# Altium schematic symbol library Interface_Ethernet.SchLib: 36 symbols
Pins are listed as number, name and electrical type; pins without a type are passive.

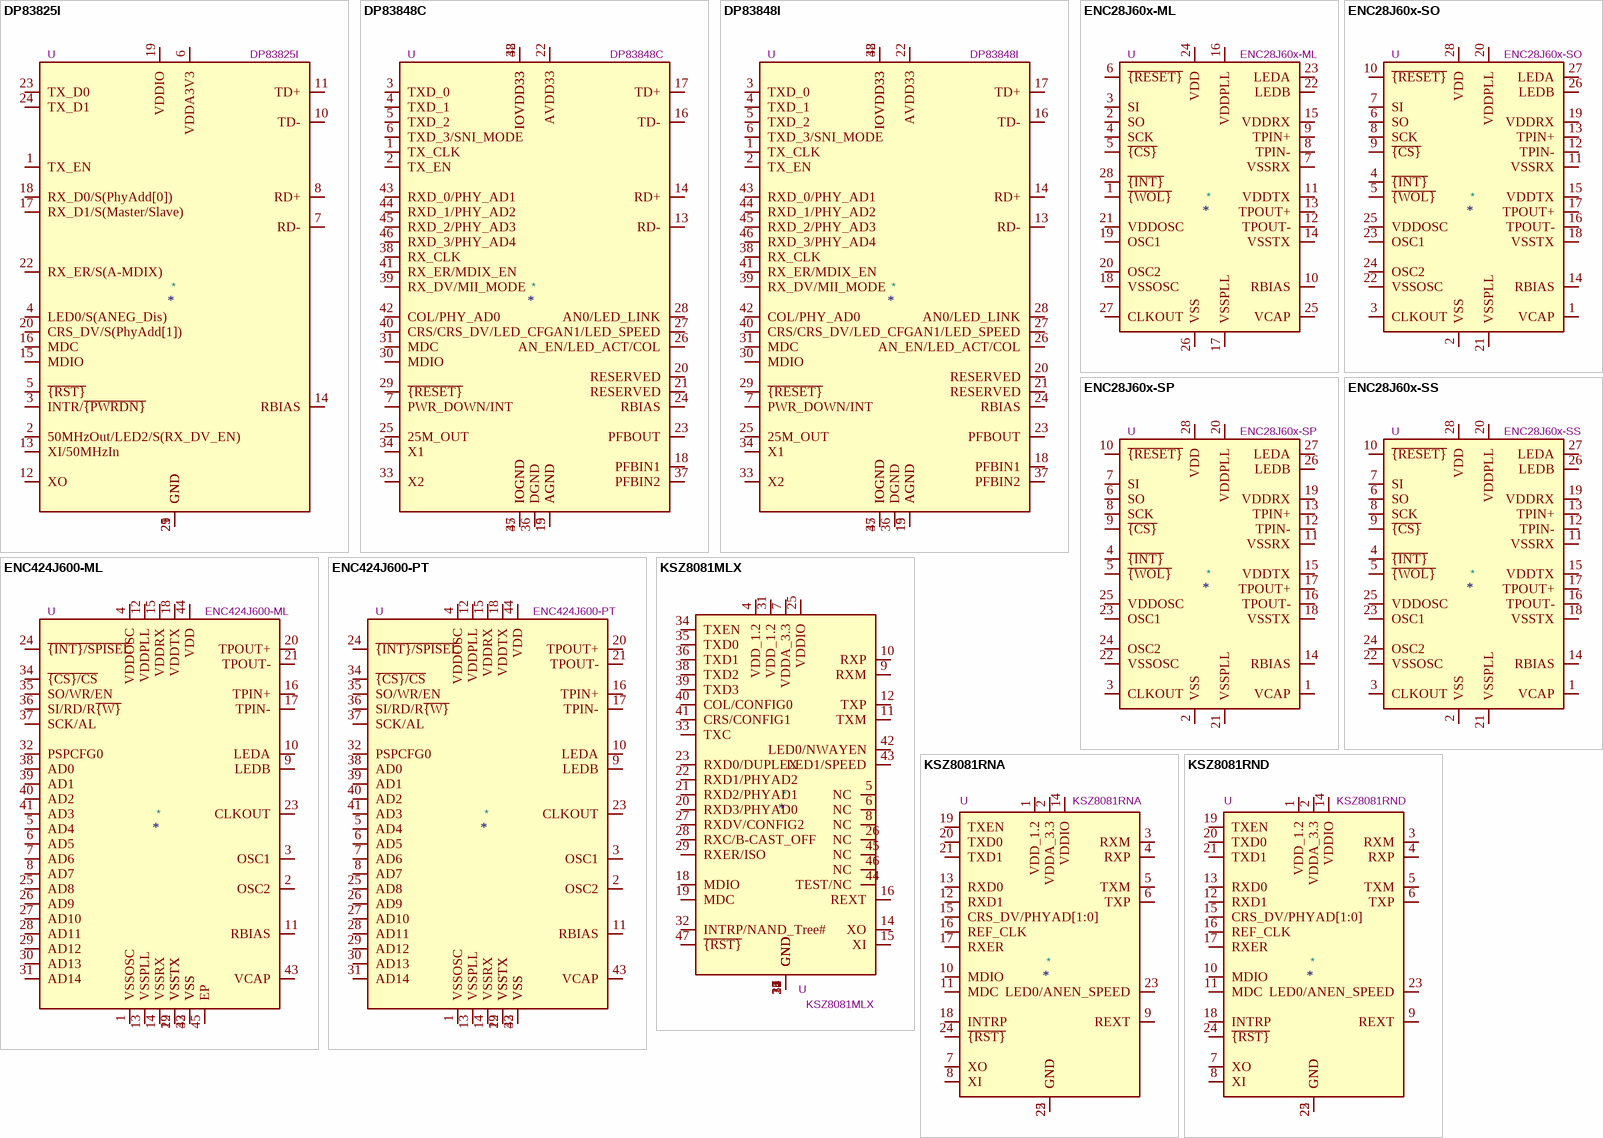
[diagram p0: symbols DP83825I to KSZ8081RND]

## DP83825I
designator *  value DP83825I  Reference: U
RMII Single 10/100Mbps Ethernet Physical Layer Transceiver, up to 150m reach, Energy-Efficient-Ethernet, Cable Diagnostics, QFN-24; ki_keywords: Ethernet 802.3 PHY Texas EEE extended TDR; ki_fp_filters: Texas*RMQ*; Footprint: Package_DFN_QFN:Texas_RMQ0024A_WQFN-24-1EP_3x3mm_P0.4mm_EP1.9x1.9mm; Datasheet: https://www.ti.com/lit/ds/symlink/dp83825i.pdf; Description_: RMII Single 10/100Mbps Ethernet Physical Layer Transceiver, up to 150m reach, Energy-Efficient-Ethernet, Cable Diagnostics, QFN-24
pins: 1 TX_EN, 2 50MHzOut/LED2/S(RX_DV_EN), 3 INTR/~{{PWRDN}}, 4 LED0/S(ANEG_Dis), 5 ~{{RST}}, 6 VDDA3V3, 7 RD-, 8 RD+, 9 GND, 10 TD-, 11 TD+, 12 XO, 13 XI/50MHzIn, 14 RBIAS, 15 MDIO, 16 MDC, 17 RX_D1/S(Master/Slave), 18 RX_D0/S(PhyAdd[0]), 19 VDDIO, 20 CRS_DV/S(PhyAdd[1]), 21 GND, 22 RX_ER/S(A-MDIX), 23 TX_D0, 24 TX_D1, 25 GND

## DP83848C
designator *  value DP83848C  Reference: U
MII/RMII Single 10/100Mbps Ethernet Physical Layer Transceiver, LQFP-48; ki_keywords: Ethernet PHY MII RMII 10/100Mpbs; ki_fp_filters: LQFP*7x7mm*P0.5mm*; Footprint: Package_QFP:LQFP-48_7x7mm_P0.5mm; Datasheet: http://www.ti.com/lit/ds/symlink/dp83848c.pdf; Description_: MII/RMII Single 10/100Mbps Ethernet Physical Layer Transceiver, LQFP-48
pins: 1 TX_CLK, 2 TX_EN, 3 TXD_0, 4 TXD_1, 5 TXD_2, 6 TXD_3/SNI_MODE, 7 PWR_DOWN/INT, 13 RD-, 14 RD+, 15 AGND, 16 TD-, 17 TD+, 18 PFBIN1, 19 AGND, 20 RESERVED, 21 RESERVED, 22 AVDD33, 23 PFBOUT, 24 RBIAS, 25 25M_OUT, 26 AN_EN/LED_ACT/COL, 27 AN1/LED_SPEED, 28 AN0/LED_LINK, 29 ~{{RESET}}, 30 MDIO, 31 MDC, 32 IOVDD33, 33 X2, 34 X1, 35 IOGND, 36 DGND, 37 PFBIN2, 38 RX_CLK, 39 RX_DV/MII_MODE, 40 CRS/CRS_DV/LED_CFG, 41 RX_ER/MDIX_EN, 42 COL/PHY_AD0, 43 RXD_0/PHY_AD1, 44 RXD_1/PHY_AD2, 45 RXD_2/PHY_AD3, 46 RXD_3/PHY_AD4, 47 IOGND, 48 IOVDD33

## DP83848I
designator *  value DP83848I  Reference: U
MII/RMII Single 10/100Mbps Ethernet Physical Layer Transceiver, LQFP-48; ki_keywords: Ethernet PHY MII RMII 10/100Mpbs; ki_fp_filters: LQFP*7x7mm*P0.5mm*; Footprint: Package_QFP:LQFP-48_7x7mm_P0.5mm; Datasheet: http://www.ti.com/lit/ds/symlink/dp83848c.pdf; Description_: MII/RMII Single 10/100Mbps Ethernet Physical Layer Transceiver, LQFP-48
pins: 1 TX_CLK, 2 TX_EN, 3 TXD_0, 4 TXD_1, 5 TXD_2, 6 TXD_3/SNI_MODE, 7 PWR_DOWN/INT, 13 RD-, 14 RD+, 15 AGND, 16 TD-, 17 TD+, 18 PFBIN1, 19 AGND, 20 RESERVED, 21 RESERVED, 22 AVDD33, 23 PFBOUT, 24 RBIAS, 25 25M_OUT, 26 AN_EN/LED_ACT/COL, 27 AN1/LED_SPEED, 28 AN0/LED_LINK, 29 ~{{RESET}}, 30 MDIO, 31 MDC, 32 IOVDD33, 33 X2, 34 X1, 35 IOGND, 36 DGND, 37 PFBIN2, 38 RX_CLK, 39 RX_DV/MII_MODE, 40 CRS/CRS_DV/LED_CFG, 41 RX_ER/MDIX_EN, 42 COL/PHY_AD0, 43 RXD_0/PHY_AD1, 44 RXD_1/PHY_AD2, 45 RXD_2/PHY_AD3, 46 RXD_3/PHY_AD4, 47 IOGND, 48 IOVDD33

## ENC28J60x-ML
designator *  value ENC28J60x-ML  Reference: U
ENC28J60 Single Chip Ethernet Interface,QFN-28; ki_keywords: ENC Ethernet; ki_fp_filters: QFN*28*1EP*6x6mm*P0.65mm*; Footprint: Package_DFN_QFN:QFN-28-1EP_6x6mm_P0.65mm_EP4.25x4.25mm; Datasheet: http://ww1.microchip.com/downloads/en/devicedoc/39662e.pdf; Description_: ENC28J60 Single Chip Ethernet Interface,QFN-28
pins: 1 ~{{WOL}}, 2 SO, 3 SI, 4 SCK, 5 ~{{CS}}, 6 ~{{RESET}}, 7 VSSRX, 8 TPIN-, 9 TPIN+, 10 RBIAS, 11 VDDTX, 12 TPOUT-, 13 TPOUT+, 14 VSSTX, 15 VDDRX, 16 VDDPLL, 17 VSSPLL, 18 VSSOSC, 19 OSC1, 20 OSC2, 21 VDDOSC, 22 LEDB, 23 LEDA, 24 VDD, 25 VCAP, 26 VSS, 27 CLKOUT, 28 ~{{INT}}

## ENC28J60x-SO
designator *  value ENC28J60x-SO  Reference: U
ENC28J60 Single Chip Ethernet Interface, SOIC-28; ki_keywords: ENC Ethernet; ki_fp_filters: SOIC*28*7.5x17.9mm*P1.27mm*; Footprint: Package_SO:SOIC-28W_7.5x17.9mm_P1.27mm; Datasheet: http://ww1.microchip.com/downloads/en/devicedoc/39662e.pdf; Description_: ENC28J60 Single Chip Ethernet Interface, SOIC-28
pins: 1 VCAP, 2 VSS, 3 CLKOUT, 4 ~{{INT}}, 5 ~{{WOL}}, 6 SO, 7 SI, 8 SCK, 9 ~{{CS}}, 10 ~{{RESET}}, 11 VSSRX, 12 TPIN-, 13 TPIN+, 14 RBIAS, 15 VDDTX, 16 TPOUT-, 17 TPOUT+, 18 VSSTX, 19 VDDRX, 20 VDDPLL, 21 VSSPLL, 22 VSSOSC, 23 OSC1, 24 OSC2, 25 VDDOSC, 26 LEDB, 27 LEDA, 28 VDD

## ENC28J60x-SP
designator *  value ENC28J60x-SP  Reference: U
ENC28J60 Single Chip Ethernet Interface, DIP-28; ki_keywords: ENC Ethernet; ki_fp_filters: DIP*28*W7.62mm*; Footprint: Package_DIP:DIP-28_W7.62mm; Datasheet: http://ww1.microchip.com/downloads/en/devicedoc/39662e.pdf; Description_: ENC28J60 Single Chip Ethernet Interface, DIP-28
pins: 1 VCAP, 2 VSS, 3 CLKOUT, 4 ~{{INT}}, 5 ~{{WOL}}, 6 SO, 7 SI, 8 SCK, 9 ~{{CS}}, 10 ~{{RESET}}, 11 VSSRX, 12 TPIN-, 13 TPIN+, 14 RBIAS, 15 VDDTX, 16 TPOUT-, 17 TPOUT+, 18 VSSTX, 19 VDDRX, 20 VDDPLL, 21 VSSPLL, 22 VSSOSC, 23 OSC1, 24 OSC2, 25 VDDOSC, 26 LEDB, 27 LEDA, 28 VDD

## ENC28J60x-SS
designator *  value ENC28J60x-SS  Reference: U
ENC28J60 Single Chip Ethernet Interface, SSOP-28; ki_keywords: ENC Ethernet; ki_fp_filters: SSOP*28*5.3x10.2mm*P0.65mm*; Footprint: Package_SO:SSOP-28_5.3x10.2mm_P0.65mm; Datasheet: http://ww1.microchip.com/downloads/en/devicedoc/39662e.pdf; Description_: ENC28J60 Single Chip Ethernet Interface, SSOP-28
pins: 1 VCAP, 2 VSS, 3 CLKOUT, 4 ~{{INT}}, 5 ~{{WOL}}, 6 SO, 7 SI, 8 SCK, 9 ~{{CS}}, 10 ~{{RESET}}, 11 VSSRX, 12 TPIN-, 13 TPIN+, 14 RBIAS, 15 VDDTX, 16 TPOUT-, 17 TPOUT+, 18 VSSTX, 19 VDDRX, 20 VDDPLL, 21 VSSPLL, 22 VSSOSC, 23 OSC1, 24 OSC2, 25 VDDOSC, 26 LEDB, 27 LEDA, 28 VDD

## ENC424J600-ML
designator *  value ENC424J600-ML  Reference: U
Stand-Alone 10/100 Ethernet Controller with SPI or Parallel Interface, QFN-44; ki_keywords: ENC Ethernet; ki_fp_filters: QFN*44*8x8mm*P0.65mm*; Footprint: Package_DFN_QFN:QFN-44-1EP_8x8mm_P0.65mm_EP6.45x6.45mm; Datasheet: http://ww1.microchip.com/downloads/en/DeviceDoc/39935c.pdf; Description_: Stand-Alone 10/100 Ethernet Controller with SPI or Parallel Interface, QFN-44
pins: 1 VSSOSC, 2 OSC2, 3 OSC1, 4 VDDOSC, 5 AD4, 6 AD5, 7 AD6, 8 AD7, 9 LEDB, 10 LEDA, 11 RBIAS, 12 VDDPLL, 13 VSSPLL, 14 VSSRX, 15 VDDRX, 16 TPIN+, 17 TPIN-, 18 VDDTX, 19 VSSTX, 20 TPOUT+, 21 TPOUT-, 22 VSSTX, 23 CLKOUT, 24 ~{{INT}/SPISEL}, 25 AD8, 26 AD9, 27 AD10, 28 AD11, 29 AD12, 30 AD13, 31 AD14, 32 PSPCFG0, 33 VSS, 34 ~{{CS}/CS}, 35 SO/WR/EN, 36 SI/RD/R~{{W}}, 37 SCK/AL, 38 AD0, 39 AD1, 40 AD2, 41 AD3, 42 VSS, 43 VCAP, 44 VDD, 45 EP

## ENC424J600-PT
designator *  value ENC424J600-PT  Reference: U
Stand-Alone 10/100 Ethernet Controller with SPI or Parallel Interface, TQFP-44; ki_keywords: ENC Ethernet; ki_fp_filters: TQFP*44*10x10mm*P0.8mm*; Footprint: Package_QFP:TQFP-44_10x10mm_P0.8mm; Datasheet: http://ww1.microchip.com/downloads/en/DeviceDoc/39935c.pdf; Description_: Stand-Alone 10/100 Ethernet Controller with SPI or Parallel Interface, TQFP-44
pins: 1 VSSOSC, 2 OSC2, 3 OSC1, 4 VDDOSC, 5 AD4, 6 AD5, 7 AD6, 8 AD7, 9 LEDB, 10 LEDA, 11 RBIAS, 12 VDDPLL, 13 VSSPLL, 14 VSSRX, 15 VDDRX, 16 TPIN+, 17 TPIN-, 18 VDDTX, 19 VSSTX, 20 TPOUT+, 21 TPOUT-, 22 VSSTX, 23 CLKOUT, 24 ~{{INT}/SPISEL}, 25 AD8, 26 AD9, 27 AD10, 28 AD11, 29 AD12, 30 AD13, 31 AD14, 32 PSPCFG0, 33 VSS, 34 ~{{CS}/CS}, 35 SO/WR/EN, 36 SI/RD/R~{{W}}, 37 SCK/AL, 38 AD0, 39 AD1, 40 AD2, 41 AD3, 42 VSS, 43 VCAP, 44 VDD

## KSZ8081MLX
designator *  value KSZ8081MLX  Reference: U
10BASE-T/100BASE-TX PHY with RMII Support, 25 MHz input clock, LQFP-48; ki_keywords: ETH PHY RMII MII; ki_fp_filters: LQFP?48*7x7mm*P0.5mm*; Footprint: Package_QFP:LQFP-48_7x7mm_P0.5mm; Datasheet: http://ww1.microchip.com/downloads/en/DeviceDoc/KSZ8081MLX.pdf; Description_: 10BASE-T/100BASE-TX PHY with RMII Support, 25 MHz input clock, LQFP-48
pins: 1 GND, 2 GND, 3 GND, 4 VDD_1.2, 5 NC, 6 NC, 7 VDDA_3.3, 8 NC, 9 RXM, 10 RXP, 11 TXM, 12 TXP, 13 GND, 14 XO, 15 XI, 16 REXT, 17 GND, 18 MDIO, 19 MDC, 20 RXD3/PHYAD0, 21 RXD2/PHYAD1, 22 RXD1/PHYAD2, 23 RXD0/DUPLEX, 24 GND, 25 VDDIO, 26 NC, 27 RXDV/CONFIG2, 28 RXC/B-CAST_OFF, 29 RXER/ISO, 30 GND, 31 VDD_1.2, 32 INTRP/NAND_Tree#, 33 TXC, 34 TXEN, 35 TXD0, 36 TXD1, 37 GND, 38 TXD2, 39 TXD3, 40 COL/CONFIG0, 41 CRS/CONFIG1, 42 LED0/NWAYEN, 43 LED1/SPEED, 44 TEST/NC, 45 NC, 46 NC, 47 ~{{RST}}

## KSZ8081RNA
designator *  value KSZ8081RNA  Reference: U
10BASE-T/100BASE-TX PHY with RMII Support, 25 MHz input clock/50 MHz output, QFN-24; ki_keywords: ETH PHY RMII; ki_fp_filters: QFN*1EP*4x4mm*P0.5mm*; Footprint: Package_DFN_QFN:QFN-24-1EP_4x4mm_P0.5mm_EP2.6x2.6mm; Datasheet: http://ww1.microchip.com/downloads/en/DeviceDoc/00002199A.pdf; Description_: 10BASE-T/100BASE-TX PHY with RMII Support, 25 MHz input clock/50 MHz output, QFN-24
pins: 1 VDD_1.2, 2 VDDA_3.3, 3 RXM, 4 RXP, 5 TXM, 6 TXP, 7 XO, 8 XI, 9 REXT, 10 MDIO, 11 MDC, 12 RXD1, 13 RXD0, 14 VDDIO, 15 CRS_DV/PHYAD[1:0], 16 REF_CLK, 17 RXER, 18 INTRP, 19 TXEN, 20 TXD0, 21 TXD1, 22 GND, 23 LED0/ANEN_SPEED, 24 ~{{RST}}, 25 GND

## KSZ8081RND
designator *  value KSZ8081RND  Reference: U
10BASE-T/100BASE-TX PHY with RMII Support, 50 MHz input clock, QFN-24; ki_keywords: ETH PHY RMII; ki_fp_filters: QFN*1EP*4x4mm*P0.5mm*; Footprint: Package_DFN_QFN:QFN-24-1EP_4x4mm_P0.5mm_EP2.6x2.6mm; Datasheet: http://ww1.microchip.com/downloads/en/DeviceDoc/00002199A.pdf; Description_: 10BASE-T/100BASE-TX PHY with RMII Support, 50 MHz input clock, QFN-24
pins: 1 VDD_1.2, 2 VDDA_3.3, 3 RXM, 4 RXP, 5 TXM, 6 TXP, 7 XO, 8 XI, 9 REXT, 10 MDIO, 11 MDC, 12 RXD1, 13 RXD0, 14 VDDIO, 15 CRS_DV/PHYAD[1:0], 16 REF_CLK, 17 RXER, 18 INTRP, 19 TXEN, 20 TXD0, 21 TXD1, 22 GND, 23 LED0/ANEN_SPEED, 24 ~{{RST}}, 25 GND

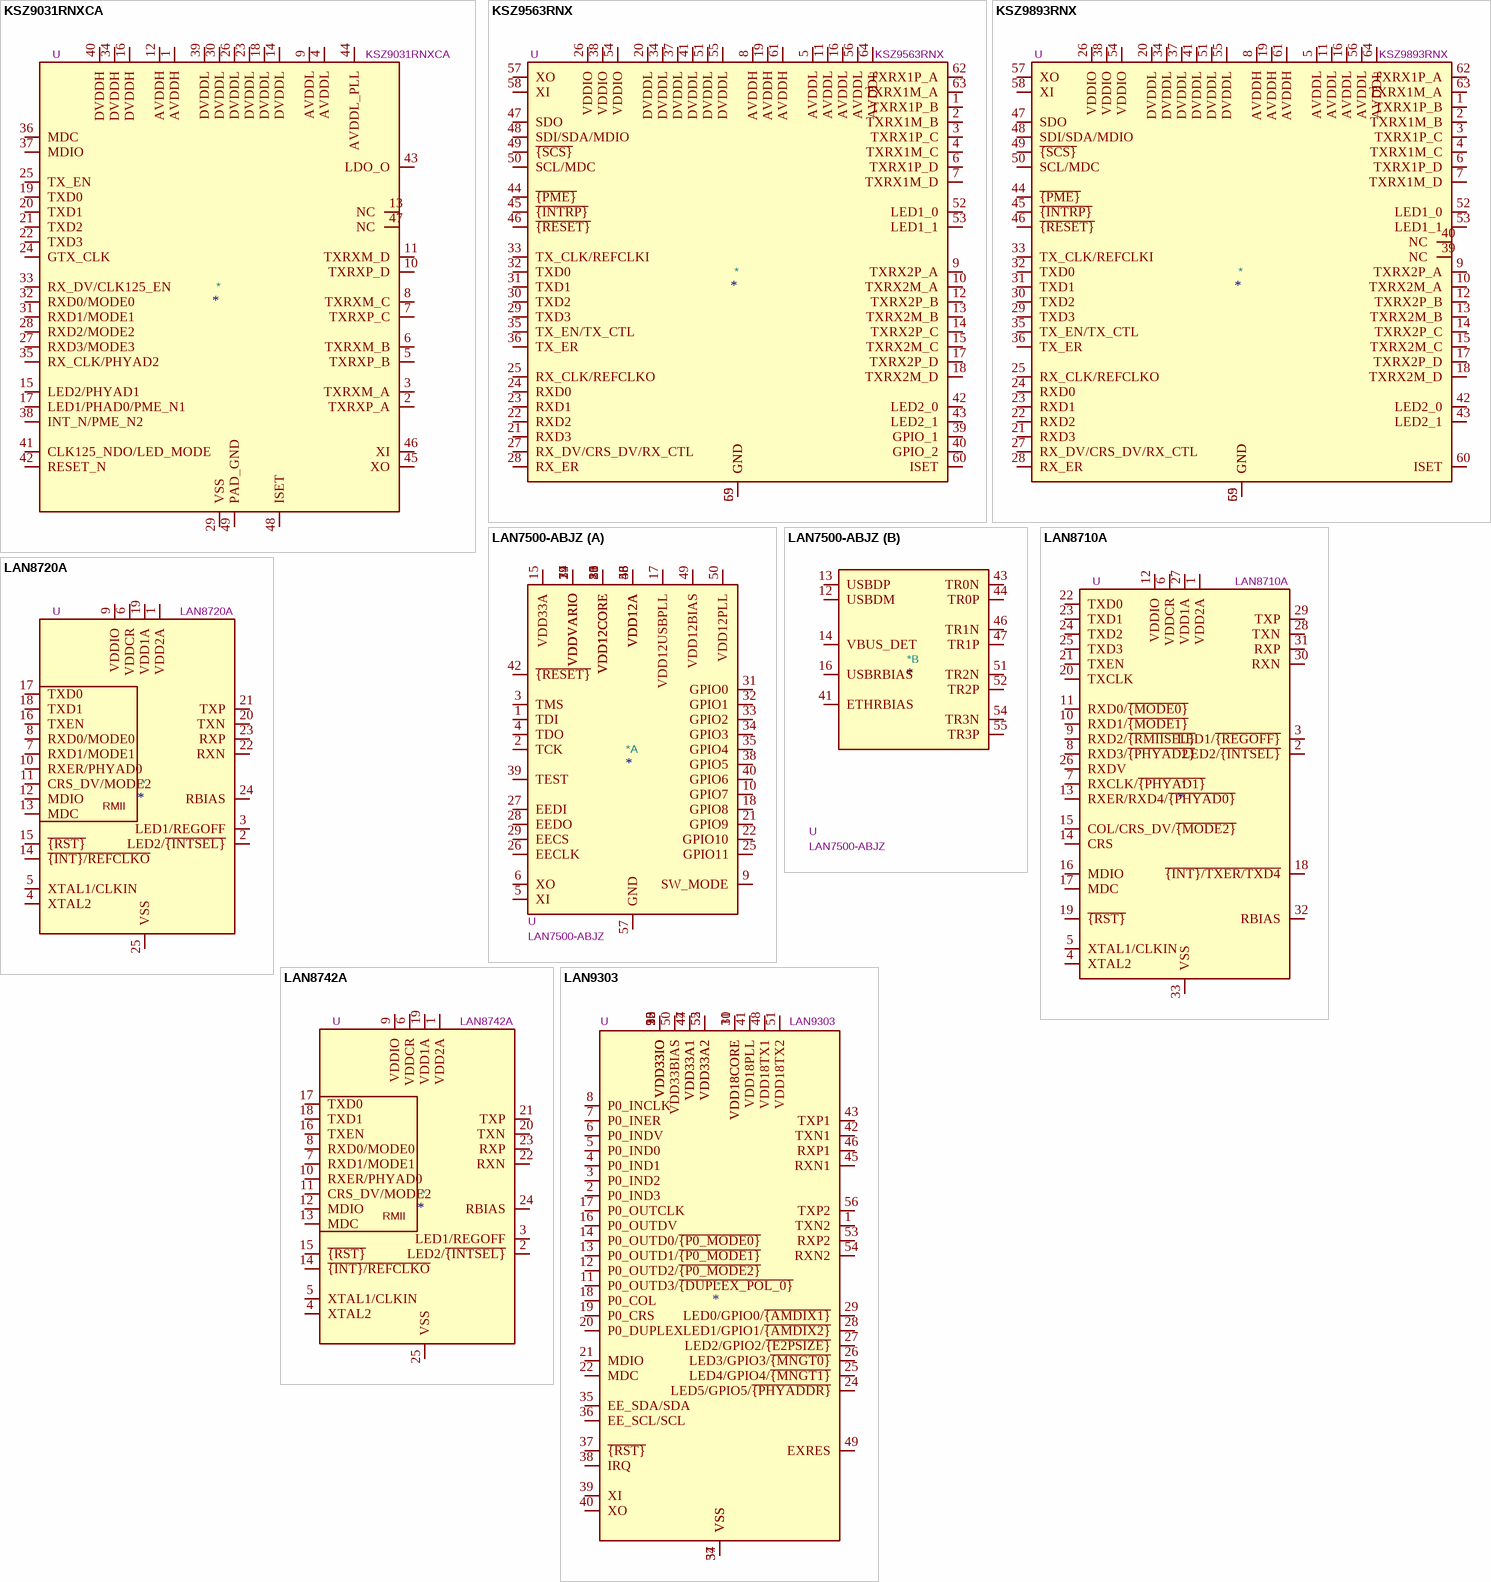
[diagram p1: symbols KSZ9031RNXCA to LAN9303]

## KSZ9031RNXCA
designator *  value KSZ9031RNXCA  Reference: U
10/100/1000Mbps Ethernet Transceiver with RGMII Interface, QFN-48; ki_keywords: ETHERNET PHY RGMII WOL IEEE 802.3 MICROCHIP; ki_fp_filters: QFN*1EP*7x7mm*P0.5mm*; Footprint: Package_DFN_QFN:QFN-48-1EP_7x7mm_P0.5mm_EP5.15x5.15mm; Datasheet: http://ww1.microchip.com/downloads/en/DeviceDoc/00002117C.pdf; Description_: 10/100/1000Mbps Ethernet Transceiver with RGMII Interface, QFN-48
pins: 1 AVDDH, 2 TXRXP_A, 3 TXRXM_A, 4 AVDDL, 5 TXRXP_B, 6 TXRXM_B, 7 TXRXP_C, 8 TXRXM_C, 9 AVDDL, 10 TXRXP_D, 11 TXRXM_D, 12 AVDDH, 13 NC, 14 DVDDL, 15 LED2/PHYAD1, 16 DVDDH, 17 LED1/PHAD0/PME_N1, 18 DVDDL, 19 TXD0, 20 TXD1, 21 TXD2, 22 TXD3, 23 DVDDL, 24 GTX_CLK, 25 TX_EN, 26 DVDDL, 27 RXD3/MODE3, 28 RXD2/MODE2, 29 VSS, 30 DVDDL, 31 RXD1/MODE1, 32 RXD0/MODE0, 33 RX_DV/CLK125_EN, 34 DVDDH, 35 RX_CLK/PHYAD2, 36 MDC, 37 MDIO, 38 INT_N/PME_N2, 39 DVDDL, 40 DVDDH, 41 CLK125_NDO/LED_MODE, 42 RESET_N, 43 LDO_O, 44 AVDDL_PLL, 45 XO, 46 XI, 47 NC, 48 ISET, 49 PAD_GND

## KSZ9563RNX
designator *  value KSZ9563RNX  Reference: U
3-Port Gigabit Ethernet Switch with RGMII/MII/RMII Interface and IEEE 1588v2, QFN-64; ki_keywords: Gigabit Ethernet Switch RGMII MII RMII ieee1588v2; ki_fp_filters: QFN*1EP*8x8mm*P0.4mm*; Footprint: Package_DFN_QFN:QFN-64-1EP_8x8mm_P0.4mm_EP6.5x6.5mm; Datasheet: http://ww1.microchip.com/downloads/en/DeviceDoc/KSZ9563R-Data-Sheet-DS00002419C.pdf; Description_: 3-Port Gigabit Ethernet Switch with RGMII/MII/RMII Interface and IEEE 1588v2, QFN-64
pins: 1 TXRX1P_B, 2 TXRX1M_B, 3 TXRX1P_C, 4 TXRX1M_C, 5 AVDDL, 6 TXRX1P_D, 7 TXRX1M_D, 8 AVDDH, 9 TXRX2P_A, 10 TXRX2M_A, 11 AVDDL, 12 TXRX2P_B, 13 TXRX2M_B, 14 TXRX2P_C, 15 TXRX2M_C, 16 AVDDL, 17 TXRX2P_D, 18 TXRX2M_D, 19 AVDDH, 20 DVDDL, 21 RXD3, 22 RXD2, 23 RXD1, 24 RXD0, 25 RX_CLK/REFCLKO, 26 VDDIO, 27 RX_DV/CRS_DV/RX_CTL, 28 RX_ER, 29 TXD3, 30 TXD2, 31 TXD1, 32 TXD0, 33 TX_CLK/REFCLKI, 34 DVDDL, 35 TX_EN/TX_CTL, 36 TX_ER, 37 DVDDL, 38 VDDIO, 39 GPIO_1, 40 GPIO_2, 41 DVDDL, 42 LED2_0, 43 LED2_1, 44 ~{{PME}}, 45 ~{{INTRP}}, 46 ~{{RESET}}, 47 SDO, 48 SDI/SDA/MDIO, 49 ~{{SCS}}, 50 SCL/MDC, 51 DVDDL, 52 LED1_0, 53 LED1_1, 54 VDDIO, 55 DVDDL, 56 AVDDL, 57 XO, 58 XI, 59 GND, 60 ISET, 61 AVDDH, 62 TXRX1P_A, 63 TXRX1M_A, 64 AVDDL, 65 GND

## KSZ9893RNX
designator *  value KSZ9893RNX  Reference: U
3-Port Gigabit Ethernet Switch with RGMII/MII/RMII Interface, QFN-64; ki_keywords: Gigabit Ethernet Switch RGMII MII RMII; ki_fp_filters: QFN*1EP*8x8mm*P0.4mm*; Footprint: Package_DFN_QFN:QFN-64-1EP_8x8mm_P0.4mm_EP6.5x6.5mm; Datasheet: http://ww1.microchip.com/downloads/en/DeviceDoc/KSZ9893R-Data-Sheet-DS00002420C.pdf; Description_: 3-Port Gigabit Ethernet Switch with RGMII/MII/RMII Interface, QFN-64
pins: 1 TXRX1P_B, 2 TXRX1M_B, 3 TXRX1P_C, 4 TXRX1M_C, 5 AVDDL, 6 TXRX1P_D, 7 TXRX1M_D, 8 AVDDH, 9 TXRX2P_A, 10 TXRX2M_A, 11 AVDDL, 12 TXRX2P_B, 13 TXRX2M_B, 14 TXRX2P_C, 15 TXRX2M_C, 16 AVDDL, 17 TXRX2P_D, 18 TXRX2M_D, 19 AVDDH, 20 DVDDL, 21 RXD3, 22 RXD2, 23 RXD1, 24 RXD0, 25 RX_CLK/REFCLKO, 26 VDDIO, 27 RX_DV/CRS_DV/RX_CTL, 28 RX_ER, 29 TXD3, 30 TXD2, 31 TXD1, 32 TXD0, 33 TX_CLK/REFCLKI, 34 DVDDL, 35 TX_EN/TX_CTL, 36 TX_ER, 37 DVDDL, 38 VDDIO, 39 NC, 40 NC, 41 DVDDL, 42 LED2_0, 43 LED2_1, 44 ~{{PME}}, 45 ~{{INTRP}}, 46 ~{{RESET}}, 47 SDO, 48 SDI/SDA/MDIO, 49 ~{{SCS}}, 50 SCL/MDC, 51 DVDDL, 52 LED1_0, 53 LED1_1, 54 VDDIO, 55 DVDDL, 56 AVDDL, 57 XO, 58 XI, 59 GND, 60 ISET, 61 AVDDH, 62 TXRX1P_A, 63 TXRX1M_A, 64 AVDDL, 65 GND

## LAN7500-ABJZ
designator *  value LAN7500-ABJZ  Reference: U
Hi-Speed USB 2.0 to 10/100/1000 Ethernet Controller, QFN-56; ki_keywords: USB Ethernet 10/100/1000; ki_fp_filters: QFN*1EP*8x8mm*P0.5mm*; Footprint: Package_DFN_QFN:QFN-56-1EP_8x8mm_P0.5mm_EP5.9x5.9mm; Datasheet: http://ww1.microchip.com/downloads/en/DeviceDoc/00001734B.pdf; Description_: Hi-Speed USB 2.0 to 10/100/1000 Ethernet Controller, QFN-56
part A pins: 1 TDI, 2 TCK, 3 TMS, 4 TDO, 5 XI, 6 XO, 7 VDDVARIO, 8 VDD12CORE, 9 SW_MODE, 10 GPIO7, 11 VDD12CORE, 15 VDD33A, 17 VDD12USBPLL, 18 GPIO8, 19 VDDVARIO, 20 VDD12CORE, 21 GPIO9, 22 GPIO10, 23 VDD12CORE, 24 VDDVARIO, 25 GPIO11, 26 EECLK, 27 EEDI, 28 EEDO, 29 EECS, 30 VDD12CORE, 31 GPIO0, 32 GPIO1, 33 GPIO2, 34 GPIO3, 35 GPIO4, 36 VDD12CORE, 37 VDDVARIO, 38 GPIO5, 39 TEST, 40 GPIO6, 42 ~{{RESET}}, 45 VDD12A, 48 VDD12A, 49 VDD12BIAS, 50 VDD12PLL, 53 VDD12A, 56 VDD12A, 57 GND
part B pins: 12 USBDM, 13 USBDP, 14 VBUS_DET, 16 USBRBIAS, 41 ETHRBIAS, 43 TR0N, 44 TR0P, 46 TR1N, 47 TR1P, 51 TR2N, 52 TR2P, 54 TR3N, 55 TR3P

## LAN8710A
designator *  value LAN8710A  Reference: U
LAN8710 Ethernet PHY with MII/RMII interface, QFN-32; ki_keywords: ETH PHY MII RMII; ki_fp_filters: QFN*1EP*5x5mm*P0.5mm*; Footprint: Package_DFN_QFN:QFN-32-1EP_5x5mm_P0.5mm_EP3.3x3.3mm_ThermalVias; Datasheet: http://ww1.microchip.com/downloads/en/DeviceDoc/8710a.pdf; Description_: LAN8710 Ethernet PHY with MII/RMII interface, QFN-32
pins: 1 VDD2A, 2 LED2/~{{INTSEL}}, 3 LED1/~{{REGOFF}}, 4 XTAL2, 5 XTAL1/CLKIN, 6 VDDCR, 7 RXCLK/~{{PHYAD1}}, 8 RXD3/~{{PHYAD2}}, 9 RXD2/~{{RMIISEL}}, 10 RXD1/~{{MODE1}}, 11 RXD0/~{{MODE0}}, 12 VDDIO, 13 RXER/RXD4/~{{PHYAD0}}, 14 CRS, 15 COL/CRS_DV/~{{MODE2}}, 16 MDIO, 17 MDC, 18 ~{{INT}/TXER/TXD4}, 19 ~{{RST}}, 20 TXCLK, 21 TXEN, 22 TXD0, 23 TXD1, 24 TXD2, 25 TXD3, 26 RXDV, 27 VDD1A, 28 TXN, 29 TXP, 30 RXN, 31 RXP, 32 RBIAS, 33 VSS

## LAN8720A
designator *  value LAN8720A  Reference: U
LAN8720 Ethernet PHY with RMII interface, QFN-24; ki_keywords: ETH PHY RMII; ki_fp_filters: VQFN*1EP*4x4mm*P0.5mm*; Footprint: Package_DFN_QFN:VQFN-24-1EP_4x4mm_P0.5mm_EP2.5x2.5mm_ThermalVias; Datasheet: http://ww1.microchip.com/downloads/en/DeviceDoc/8720a.pdf; Description_: LAN8720 Ethernet PHY with RMII interface, QFN-24
pins: 1 VDD2A, 2 LED2/~{{INTSEL}}, 3 LED1/REGOFF, 4 XTAL2, 5 XTAL1/CLKIN, 6 VDDCR, 7 RXD1/MODE1, 8 RXD0/MODE0, 9 VDDIO, 10 RXER/PHYAD0, 11 CRS_DV/MODE2, 12 MDIO, 13 MDC, 14 ~{{INT}/REFCLKO}, 15 ~{{RST}}, 16 TXEN, 17 TXD0, 18 TXD1, 19 VDD1A, 20 TXN, 21 TXP, 22 RXN, 23 RXP, 24 RBIAS, 25 VSS
text: RMII

## LAN8742A
designator *  value LAN8742A  Reference: U
LAN8720 Ethernet PHY with RMII interface, QFN-24; ki_keywords: ETH PHY RMII; ki_fp_filters: VQFN*1EP*4x4mm*P0.5mm*; Footprint: Package_DFN_QFN:VQFN-24-1EP_4x4mm_P0.5mm_EP2.5x2.5mm_ThermalVias; Datasheet: http://ww1.microchip.com/downloads/en/DeviceDoc/8742a.pdf; Description_: LAN8720 Ethernet PHY with RMII interface, QFN-24
pins: 1 VDD2A, 2 LED2/~{{INTSEL}}, 3 LED1/REGOFF, 4 XTAL2, 5 XTAL1/CLKIN, 6 VDDCR, 7 RXD1/MODE1, 8 RXD0/MODE0, 9 VDDIO, 10 RXER/PHYAD0, 11 CRS_DV/MODE2, 12 MDIO, 13 MDC, 14 ~{{INT}/REFCLKO}, 15 ~{{RST}}, 16 TXEN, 17 TXD0, 18 TXD1, 19 VDD1A, 20 TXN, 21 TXP, 22 RXN, 23 RXP, 24 RBIAS, 25 VSS
text: RMII

## LAN9303
designator *  value LAN9303  Reference: U
3-port managed Ethernet switch with dual PHY and RMII interface, QFN-56; ki_keywords: ETH PHY RMII switch; ki_fp_filters: QFN*1EP*8x8mm*P0.5mm*; Footprint: Package_DFN_QFN:QFN-56-1EP_8x8mm_P0.5mm_EP5.9x5.9mm_ThermalVias; Datasheet: http://ww1.microchip.com/downloads/en/DeviceDoc/9303.pdf; Description_: 3-port managed Ethernet switch with dual PHY and RMII interface, QFN-56
pins: 1 TXN2, 2 P0_IND3, 3 P0_IND2, 4 P0_IND1, 5 P0_IND0, 6 P0_INDV, 7 P0_INER, 8 P0_INCLK, 9 VDD33IO, 10 VDD18CORE, 11 P0_OUTD3/~{{DUPLEX_POL_0}}, 12 P0_OUTD2/~{{P0_MODE2}}, 13 P0_OUTD1/~{{P0_MODE1}}, 14 P0_OUTD0/~{{P0_MODE0}}, 15 VDD33IO, 16 P0_OUTDV, 17 P0_OUTCLK, 18 P0_COL, 19 P0_CRS, 20 P0_DUPLEX, 21 MDIO, 22 MDC, 23 VDD33IO, 24 LED5/GPIO5/~{{PHYADDR}}, 25 LED4/GPIO4/~{{MNGT1}}, 26 LED3/GPIO3/~{{MNGT0}}, 27 LED2/GPIO2/~{{E2PSIZE}}, 28 LED1/GPIO1/~{{AMDIX2}}, 29 LED0/GPIO0/~{{AMDIX1}}, 30 VDD33IO, 31 VDD18CORE, 32 VDD33IO, 33 VDD33IO, 34 VSS, 35 EE_SDA/SDA, 36 EE_SCL/SCL, 37 ~{{RST}}, 38 IRQ, 39 XI, 40 XO, 41 VDD18PLL, 42 TXN1, 43 TXP1, 44 VDD33A1, 45 RXN1, 46 RXP1, 47 VDD33A1, 48 VDD18TX1, 49 EXRES, 50 VDD33BIAS, 51 VDD18TX2, 52 VDD33A2, 53 RXP2, 54 RXN2, 55 VDD33A2, 56 TXP2, 57 VSS

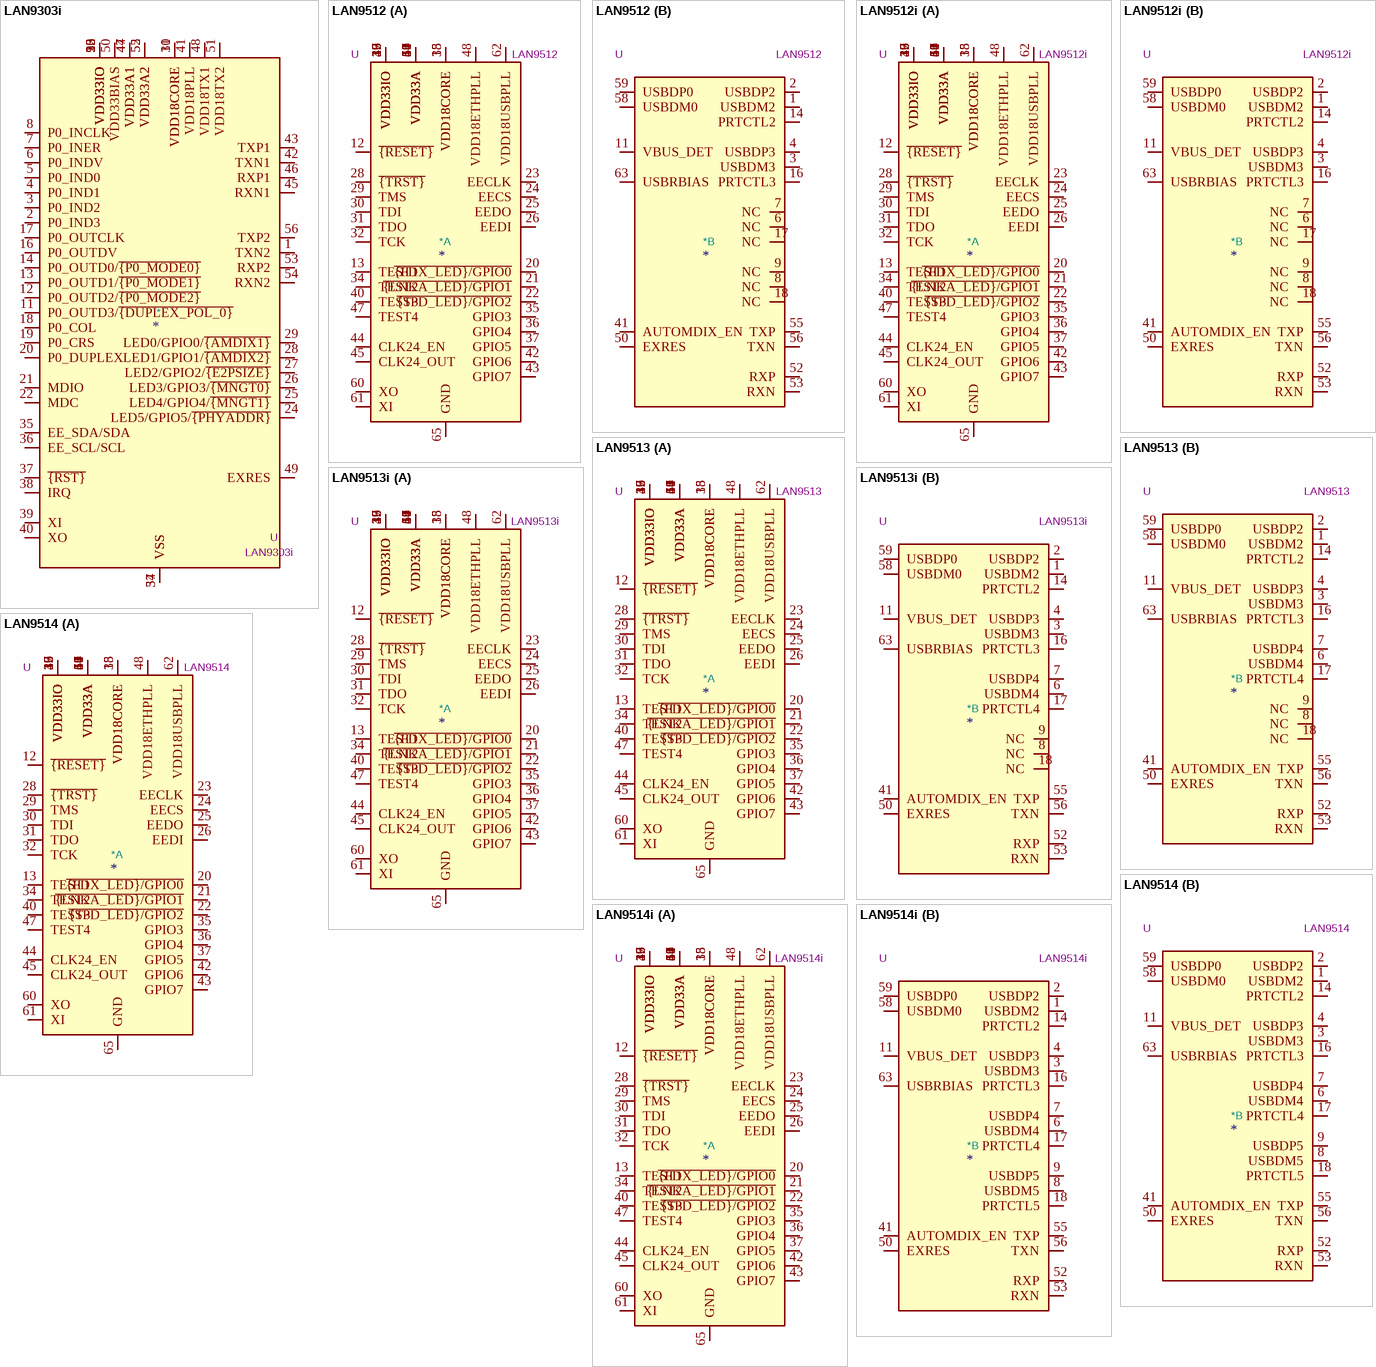
[diagram p2: symbols LAN9303i to LAN9514i]

## LAN9303i
designator *  value LAN9303i  Reference: U
3-port managed Ethernet switch with dual PHY and RMII interface, QFN-56, industrial version; ki_keywords: ETH PHY RMII switch industrial; ki_fp_filters: QFN*1EP*8x8mm*P0.5mm*; Footprint: Package_DFN_QFN:QFN-56-1EP_8x8mm_P0.5mm_EP5.9x5.9mm_ThermalVias; Datasheet: http://ww1.microchip.com/downloads/en/DeviceDoc/9303.pdf; Description_: 3-port managed Ethernet switch with dual PHY and RMII interface, QFN-56, industrial version
pins: 1 TXN2, 2 P0_IND3, 3 P0_IND2, 4 P0_IND1, 5 P0_IND0, 6 P0_INDV, 7 P0_INER, 8 P0_INCLK, 9 VDD33IO, 10 VDD18CORE, 11 P0_OUTD3/~{{DUPLEX_POL_0}}, 12 P0_OUTD2/~{{P0_MODE2}}, 13 P0_OUTD1/~{{P0_MODE1}}, 14 P0_OUTD0/~{{P0_MODE0}}, 15 VDD33IO, 16 P0_OUTDV, 17 P0_OUTCLK, 18 P0_COL, 19 P0_CRS, 20 P0_DUPLEX, 21 MDIO, 22 MDC, 23 VDD33IO, 24 LED5/GPIO5/~{{PHYADDR}}, 25 LED4/GPIO4/~{{MNGT1}}, 26 LED3/GPIO3/~{{MNGT0}}, 27 LED2/GPIO2/~{{E2PSIZE}}, 28 LED1/GPIO1/~{{AMDIX2}}, 29 LED0/GPIO0/~{{AMDIX1}}, 30 VDD33IO, 31 VDD18CORE, 32 VDD33IO, 33 VDD33IO, 34 VSS, 35 EE_SDA/SDA, 36 EE_SCL/SCL, 37 ~{{RST}}, 38 IRQ, 39 XI, 40 XO, 41 VDD18PLL, 42 TXN1, 43 TXP1, 44 VDD33A1, 45 RXN1, 46 RXP1, 47 VDD33A1, 48 VDD18TX1, 49 EXRES, 50 VDD33BIAS, 51 VDD18TX2, 52 VDD33A2, 53 RXP2, 54 RXN2, 55 VDD33A2, 56 TXP2, 57 VSS

## LAN9512
designator *  value LAN9512  Reference: U
Two USB 2.0 hub with an integrated 10/100 Ethernet controller (0°C to +70°C), QFN-48; ki_keywords: USB HUB Ethernet 10/100; ki_fp_filters: QFN*1EP?9x9mm?P0.5mm?EP7.3x7.3mm*; Footprint: Package_DFN_QFN:QFN-64-1EP_9x9mm_P0.5mm_EP7.3x7.3mm; Datasheet: http://ww1.microchip.com/downloads/en/DeviceDoc/00002304A.pdf; Description_: Two USB 2.0 hub with an integrated 10/100 Ethernet controller (0°C to +70°C), QFN-48
part A pins: 5 VDD33A, 10 VDD33A, 12 ~{{RESET}}, 13 TEST1, 15 VDD18CORE, 19 VDD33IO, 20 ~{{FDX_LED}/GPIO0}, 21 ~{{LNKA_LED}/GPIO1}, 22 ~{{SPD_LED}/GPIO2}, 23 EECLK, 24 EECS, 25 EEDO, 26 EEDI, 27 VDD33IO, 28 ~{{TRST}}, 29 TMS, 30 TDI, 31 TDO, 32 TCK, 33 VDD33IO, 34 TEST2, 35 GPIO3, 36 GPIO4, 37 GPIO5, 38 VDD18CORE, 39 VDD33IO, 40 TEST3, 42 GPIO6, 43 GPIO7, 44 CLK24_EN, 45 CLK24_OUT, 46 VDD33IO, 47 TEST4, 48 VDD18ETHPLL, 49 VDD33A, 51 VDD33A, 54 VDD33A, 57 VDD33A, 60 XO, 61 XI, 62 VDD18USBPLL, 64 VDD33A, 65 GND
part B pins: 1 USBDM2, 2 USBDP2, 3 USBDM3, 4 USBDP3, 6 NC, 7 NC, 8 NC, 9 NC, 11 VBUS_DET, 14 PRTCTL2, 16 PRTCTL3, 17 NC, 18 NC, 41 AUTOMDIX_EN, 50 EXRES, 52 RXP, 53 RXN, 55 TXP, 56 TXN, 58 USBDM0, 59 USBDP0, 63 USBRBIAS

## LAN9512i
designator *  value LAN9512i  Reference: U
Two USB 2.0 hub with an integrated 10/100 Ethernet controller (-40° to 85°C), QFN-48; ki_keywords: USB HUB Ethernet 10/100; ki_fp_filters: QFN*1EP?9x9mm?P0.5mm?EP7.3x7.3mm*; Footprint: Package_DFN_QFN:QFN-64-1EP_9x9mm_P0.5mm_EP7.3x7.3mm; Datasheet: http://ww1.microchip.com/downloads/en/DeviceDoc/00002304A.pdf; Description_: Two USB 2.0 hub with an integrated 10/100 Ethernet controller (-40° to 85°C), QFN-48
part A pins: 5 VDD33A, 10 VDD33A, 12 ~{{RESET}}, 13 TEST1, 15 VDD18CORE, 19 VDD33IO, 20 ~{{FDX_LED}/GPIO0}, 21 ~{{LNKA_LED}/GPIO1}, 22 ~{{SPD_LED}/GPIO2}, 23 EECLK, 24 EECS, 25 EEDO, 26 EEDI, 27 VDD33IO, 28 ~{{TRST}}, 29 TMS, 30 TDI, 31 TDO, 32 TCK, 33 VDD33IO, 34 TEST2, 35 GPIO3, 36 GPIO4, 37 GPIO5, 38 VDD18CORE, 39 VDD33IO, 40 TEST3, 42 GPIO6, 43 GPIO7, 44 CLK24_EN, 45 CLK24_OUT, 46 VDD33IO, 47 TEST4, 48 VDD18ETHPLL, 49 VDD33A, 51 VDD33A, 54 VDD33A, 57 VDD33A, 60 XO, 61 XI, 62 VDD18USBPLL, 64 VDD33A, 65 GND
part B pins: 1 USBDM2, 2 USBDP2, 3 USBDM3, 4 USBDP3, 6 NC, 7 NC, 8 NC, 9 NC, 11 VBUS_DET, 14 PRTCTL2, 16 PRTCTL3, 17 NC, 18 NC, 41 AUTOMDIX_EN, 50 EXRES, 52 RXP, 53 RXN, 55 TXP, 56 TXN, 58 USBDM0, 59 USBDP0, 63 USBRBIAS

## LAN9513
designator *  value LAN9513  Reference: U
Three USB 2.0 hub with an integrated 10/100 Ethernet controller (0°C to +70°C), QFN-48; ki_keywords: USB HUB Ethernet 10/100; ki_fp_filters: QFN*1EP?9x9mm?P0.5mm?EP7.3x7.3mm*; Footprint: Package_DFN_QFN:QFN-64-1EP_9x9mm_P0.5mm_EP7.3x7.3mm; Datasheet: http://ww1.microchip.com/downloads/en/DeviceDoc/00002305A.pdf; Description_: Three USB 2.0 hub with an integrated 10/100 Ethernet controller (0°C to +70°C), QFN-48
part A pins: 5 VDD33A, 10 VDD33A, 12 ~{{RESET}}, 13 TEST1, 15 VDD18CORE, 19 VDD33IO, 20 ~{{FDX_LED}/GPIO0}, 21 ~{{LNKA_LED}/GPIO1}, 22 ~{{SPD_LED}/GPIO2}, 23 EECLK, 24 EECS, 25 EEDO, 26 EEDI, 27 VDD33IO, 28 ~{{TRST}}, 29 TMS, 30 TDI, 31 TDO, 32 TCK, 33 VDD33IO, 34 TEST2, 35 GPIO3, 36 GPIO4, 37 GPIO5, 38 VDD18CORE, 39 VDD33IO, 40 TEST3, 42 GPIO6, 43 GPIO7, 44 CLK24_EN, 45 CLK24_OUT, 46 VDD33IO, 47 TEST4, 48 VDD18ETHPLL, 49 VDD33A, 51 VDD33A, 54 VDD33A, 57 VDD33A, 60 XO, 61 XI, 62 VDD18USBPLL, 64 VDD33A, 65 GND
part B pins: 1 USBDM2, 2 USBDP2, 3 USBDM3, 4 USBDP3, 6 USBDM4, 7 USBDP4, 8 NC, 9 NC, 11 VBUS_DET, 14 PRTCTL2, 16 PRTCTL3, 17 PRTCTL4, 18 NC, 41 AUTOMDIX_EN, 50 EXRES, 52 RXP, 53 RXN, 55 TXP, 56 TXN, 58 USBDM0, 59 USBDP0, 63 USBRBIAS

## LAN9513i
designator *  value LAN9513i  Reference: U
Three USB 2.0 hub with an integrated 10/100 Ethernet controller (-40° to 85°C), QFN-48; ki_keywords: USB HUB Ethernet 10/100; ki_fp_filters: QFN*1EP?9x9mm?P0.5mm?EP7.3x7.3mm*; Footprint: Package_DFN_QFN:QFN-64-1EP_9x9mm_P0.5mm_EP7.3x7.3mm; Datasheet: http://ww1.microchip.com/downloads/en/DeviceDoc/00002305A.pdf; Description_: Three USB 2.0 hub with an integrated 10/100 Ethernet controller (-40° to 85°C), QFN-48
part A pins: 5 VDD33A, 10 VDD33A, 12 ~{{RESET}}, 13 TEST1, 15 VDD18CORE, 19 VDD33IO, 20 ~{{FDX_LED}/GPIO0}, 21 ~{{LNKA_LED}/GPIO1}, 22 ~{{SPD_LED}/GPIO2}, 23 EECLK, 24 EECS, 25 EEDO, 26 EEDI, 27 VDD33IO, 28 ~{{TRST}}, 29 TMS, 30 TDI, 31 TDO, 32 TCK, 33 VDD33IO, 34 TEST2, 35 GPIO3, 36 GPIO4, 37 GPIO5, 38 VDD18CORE, 39 VDD33IO, 40 TEST3, 42 GPIO6, 43 GPIO7, 44 CLK24_EN, 45 CLK24_OUT, 46 VDD33IO, 47 TEST4, 48 VDD18ETHPLL, 49 VDD33A, 51 VDD33A, 54 VDD33A, 57 VDD33A, 60 XO, 61 XI, 62 VDD18USBPLL, 64 VDD33A, 65 GND
part B pins: 1 USBDM2, 2 USBDP2, 3 USBDM3, 4 USBDP3, 6 USBDM4, 7 USBDP4, 8 NC, 9 NC, 11 VBUS_DET, 14 PRTCTL2, 16 PRTCTL3, 17 PRTCTL4, 18 NC, 41 AUTOMDIX_EN, 50 EXRES, 52 RXP, 53 RXN, 55 TXP, 56 TXN, 58 USBDM0, 59 USBDP0, 63 USBRBIAS

## LAN9514
designator *  value LAN9514  Reference: U
Four USB 2.0 hub with an integrated 10/100 Ethernet controller (0°C to +70°C), QFN-48; ki_keywords: USB HUB Ethernet 10/100; ki_fp_filters: QFN*1EP?9x9mm?P0.5mm?EP7.3x7.3mm*; Footprint: Package_DFN_QFN:QFN-64-1EP_9x9mm_P0.5mm_EP7.3x7.3mm; Datasheet: http://ww1.microchip.com/downloads/en/DeviceDoc/00002306A.pdf; Description_: Four USB 2.0 hub with an integrated 10/100 Ethernet controller (0°C to +70°C), QFN-48
part A pins: 5 VDD33A, 10 VDD33A, 12 ~{{RESET}}, 13 TEST1, 15 VDD18CORE, 19 VDD33IO, 20 ~{{FDX_LED}/GPIO0}, 21 ~{{LNKA_LED}/GPIO1}, 22 ~{{SPD_LED}/GPIO2}, 23 EECLK, 24 EECS, 25 EEDO, 26 EEDI, 27 VDD33IO, 28 ~{{TRST}}, 29 TMS, 30 TDI, 31 TDO, 32 TCK, 33 VDD33IO, 34 TEST2, 35 GPIO3, 36 GPIO4, 37 GPIO5, 38 VDD18CORE, 39 VDD33IO, 40 TEST3, 42 GPIO6, 43 GPIO7, 44 CLK24_EN, 45 CLK24_OUT, 46 VDD33IO, 47 TEST4, 48 VDD18ETHPLL, 49 VDD33A, 51 VDD33A, 54 VDD33A, 57 VDD33A, 60 XO, 61 XI, 62 VDD18USBPLL, 64 VDD33A, 65 GND
part B pins: 1 USBDM2, 2 USBDP2, 3 USBDM3, 4 USBDP3, 6 USBDM4, 7 USBDP4, 8 USBDM5, 9 USBDP5, 11 VBUS_DET, 14 PRTCTL2, 16 PRTCTL3, 17 PRTCTL4, 18 PRTCTL5, 41 AUTOMDIX_EN, 50 EXRES, 52 RXP, 53 RXN, 55 TXP, 56 TXN, 58 USBDM0, 59 USBDP0, 63 USBRBIAS

## LAN9514i
designator *  value LAN9514i  Reference: U
Four USB 2.0 hub with an integrated 10/100 Ethernet controller (-40° to 85°C), QFN-48; ki_keywords: USB HUB Ethernet 10/100; ki_fp_filters: QFN*1EP?9x9mm?P0.5mm?EP7.3x7.3mm*; Footprint: Package_DFN_QFN:QFN-64-1EP_9x9mm_P0.5mm_EP7.3x7.3mm; Datasheet: http://ww1.microchip.com/downloads/en/DeviceDoc/00002306A.pdf; Description_: Four USB 2.0 hub with an integrated 10/100 Ethernet controller (-40° to 85°C), QFN-48
part A pins: 5 VDD33A, 10 VDD33A, 12 ~{{RESET}}, 13 TEST1, 15 VDD18CORE, 19 VDD33IO, 20 ~{{FDX_LED}/GPIO0}, 21 ~{{LNKA_LED}/GPIO1}, 22 ~{{SPD_LED}/GPIO2}, 23 EECLK, 24 EECS, 25 EEDO, 26 EEDI, 27 VDD33IO, 28 ~{{TRST}}, 29 TMS, 30 TDI, 31 TDO, 32 TCK, 33 VDD33IO, 34 TEST2, 35 GPIO3, 36 GPIO4, 37 GPIO5, 38 VDD18CORE, 39 VDD33IO, 40 TEST3, 42 GPIO6, 43 GPIO7, 44 CLK24_EN, 45 CLK24_OUT, 46 VDD33IO, 47 TEST4, 48 VDD18ETHPLL, 49 VDD33A, 51 VDD33A, 54 VDD33A, 57 VDD33A, 60 XO, 61 XI, 62 VDD18USBPLL, 64 VDD33A, 65 GND
part B pins: 1 USBDM2, 2 USBDP2, 3 USBDM3, 4 USBDP3, 6 USBDM4, 7 USBDP4, 8 USBDM5, 9 USBDP5, 11 VBUS_DET, 14 PRTCTL2, 16 PRTCTL3, 17 PRTCTL4, 18 PRTCTL5, 41 AUTOMDIX_EN, 50 EXRES, 52 RXP, 53 RXN, 55 TXP, 56 TXN, 58 USBDM0, 59 USBDP0, 63 USBRBIAS

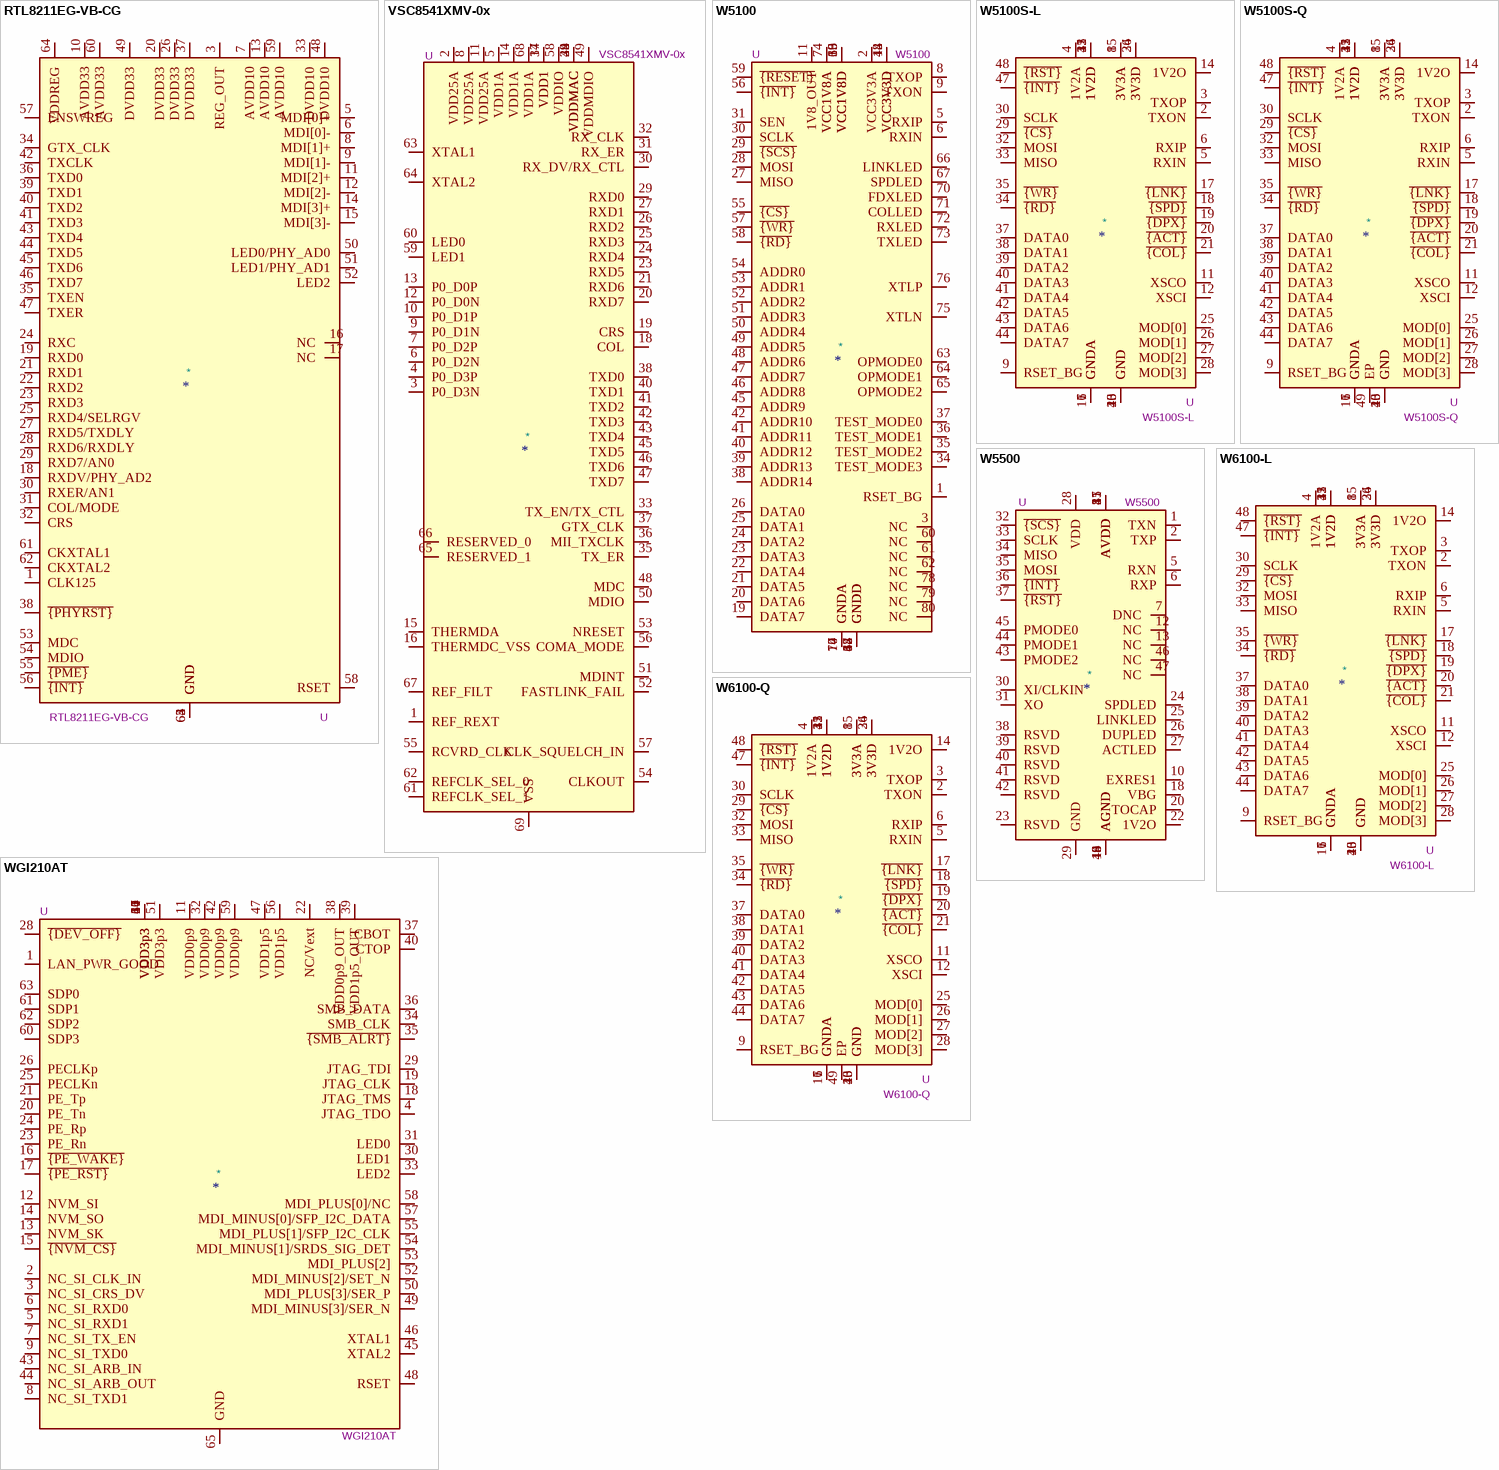
[diagram p3: symbols RTL8211EG-VB-CG to WGI210AT]

## RTL8211EG-VB-CG
designator *  value RTL8211EG-VB-CG  Reference: U
10/100/1000Mbps Ethernet Transceiver with RGMII/GMII/MII/RMII Interface, QFN-64; ki_keywords: Ethernet Phy Gigabit; ki_fp_filters: QFN*1EP*9x9mm*P0.5mm*; Footprint: Package_DFN_QFN:QFN-64-1EP_9x9mm_P0.5mm_EP3.8x3.8mm; Datasheet: https://datasheet.lcsc.com/szlcsc/Realtek-Semicon-RTL8211EG-VB-CG_C69264.pdf; Description_: 10/100/1000Mbps Ethernet Transceiver with RGMII/GMII/MII/RMII Interface, QFN-64
pins: 1 CLK125, 2 GND, 3 REG_OUT, 4 GND, 5 MDI[0]+, 6 MDI[0]-, 7 AVDD10, 8 MDI[1]+, 9 MDI[1]-, 10 AVDD33, 11 MDI[2]+, 12 MDI[2]-, 13 AVDD10, 14 MDI[3]+, 15 MDI[3]-, 16 NC, 17 NC, 18 RXDV/PHY_AD2, 19 RXD0, 20 DVDD33, 21 RXD1, 22 RXD2, 23 RXD3, 24 RXC, 25 RXD4/SELRGV, 26 DVDD33, 27 RXD5/TXDLY, 28 RXD6/RXDLY, 29 RXD7/AN0, 30 RXER/AN1, 31 COL/MODE, 32 CRS, 33 DVDD10, 34 GTX_CLK, 35 TXEN, 36 TXD0, 37 DVDD33, 38 ~{{PHYRST}}, 39 TXD1, 40 TXD2, 41 TXD3, 42 TXCLK, 43 TXD4, 44 TXD5, 45 TXD6, 46 TXD7, 47 TXER, 48 DVDD10, 49 DVDD33, 50 LED0/PHY_AD0, 51 LED1/PHY_AD1, 52 LED2, 53 MDC, 54 MDIO, 55 ~{{PME}}, 56 ~{{INT}}, 57 ENSWREG, 58 RSET, 59 AVDD10, 60 AVDD33, 61 CKXTAL1, 62 CKXTAL2, 63 GND, 64 VDDREG, 65 GND

## VSC8541XMV-0x
designator *  value VSC8541XMV-0x  Reference: U
Single Port Gigabit Ethernet, GMII/RGMII/MII/RMII Interfaces, QFN-68; ki_keywords: Gigabit Ethernet PHY GMII RGMII MII RMII; ki_fp_filters: QFN?68*1EP*8x8mm*P0.4mm*; Footprint: Package_DFN_QFN:QFN-68-1EP_8x8mm_P0.4mm_EP5.2x5.2mm; Datasheet: https://ethernet.microsemi.com/products/download.php?fid=7978&number=vsc8541; Description_: Single Port Gigabit Ethernet, GMII/RGMII/MII/RMII Interfaces, QFN-68
pins: 1 REF_REXT, 2 VDD25A, 3 P0_D3N, 4 P0_D3P, 5 VDD1A, 6 P0_D2N, 7 P0_D2P, 8 VDD25A, 9 P0_D1N, 10 P0_D1P, 11 VDD25A, 12 P0_D0N, 13 P0_D0P, 14 VDD1A, 15 THERMDA, 16 THERMDC_VSS, 17 VDD1, 18 COL, 19 CRS, 20 RXD7, 21 RXD6, 22 VDDMAC, 23 RXD5, 24 RXD4, 25 RXD3, 26 RXD2, 27 RXD1, 28 VDDMAC, 29 RXD0, 30 RX_DV/RX_CTL, 31 RX_ER, 32 RX_CLK, 33 TX_EN/TX_CTL, 34 VDD1, 35 TX_ER, 36 MII_TXCLK, 37 GTX_CLK, 38 TXD0, 39 VDDMAC, 40 TXD1, 41 TXD2, 42 TXD3, 43 TXD4, 44 VDDMAC, 45 TXD5, 46 TXD6, 47 TXD7, 48 MDC, 49 VDDMDIO, 50 MDIO, 51 MDINT, 52 FASTLINK_FAIL, 53 NRESET, 54 CLKOUT, 55 RCVRD_CLK, 56 COMA_MODE, 57 CLK_SQUELCH_IN, 58 VDDIO, 59 LED1, 60 LED0, 61 REFCLK_SEL_1, 62 REFCLK_SEL_0, 63 XTAL1, 64 XTAL2, 65 RESERVED_1, 66 RESERVED_0, 67 REF_FILT, 68 VDD1A, 69 VSS

## W5100
designator *  value W5100  Reference: U
10/100Mb Ethernet controller with TCP/IP stack, LQFP-80; ki_keywords: Wiznet Ethernet controller; ki_fp_filters: LQFP*10x10mm*P0.4mm*; Footprint: Package_QFP:LQFP-80_10x10mm_P0.4mm; Datasheet: http://www.wiznet.io/wp-content/uploads/wiznethome/Chip/W5100/Document/W5100_Datasheet_v1.2.7.pdf; Description_: 10/100Mb Ethernet controller with TCP/IP stack, LQFP-80
pins: 1 RSET_BG, 2 VCC3V3A, 3 NC, 4 GNDA, 5 RXIP, 6 RXIN, 7 VCC1V8A, 8 TXOP, 9 TXON, 10 GNDA, 11 1V8_OUT, 12 VCC3V3D, 13 GNDD, 14 GNDD, 15 VCC1V8D, 16 VCC1V8D, 17 GNDD, 18 VCC3V3D, 19 DATA7, 20 DATA6, 21 DATA5, 22 DATA4, 23 DATA3, 24 DATA2, 25 DATA1, 26 DATA0, 27 MISO, 28 MOSI, 29 ~{{SCS}}, 30 SCLK, 31 SEN, 32 GNDD, 33 VCC1V8D, 34 TEST_MODE3, 35 TEST_MODE2, 36 TEST_MODE1, 37 TEST_MODE0, 38 ADDR14, 39 ADDR13, 40 ADDR12, 41 ADDR11, 42 ADDR10, 43 GNDD, 44 VCC3V3D, 45 ADDR9, 46 ADDR8, 47 ADDR7, 48 ADDR6, 49 ADDR5, 50 ADDR4, 51 ADDR3, 52 ADDR2, 53 ADDR1, 54 ADDR0, 55 ~{{CS}}, 56 ~{{INT}}, 57 ~{{WR}}, 58 ~{{RD}}, 59 ~{{RESET}}, 60 NC, 61 NC, 62 NC, 63 OPMODE0, 64 OPMODE1, 65 OPMODE2, 66 LINKLED, 67 SPDLED, 68 GNDD, 69 VCC1V8D, 70 FDXLED, 71 COLLED, 72 RXLED, 73 TXLED, 74 VCC1V8A, 75 XTLN, 76 XTLP, 77 GNDA, 78 NC, 79 NC, 80 NC

## W5100S-L
designator *  value W5100S-L  Reference: U
10/100Mb Ethernet controller with TCP/IP stack, LQFP-48; Manufacturer: WIZnet; ki_fp_filters: LQFP*7x7mm*P0.5mm*; Footprint: Package_QFP:LQFP-48_7x7mm_P0.5mm; Datasheet: https://docs.wiznet.io/img/products/w5100s/w5100s-ds-v128e.pdf; Description_: 10/100Mb Ethernet controller with TCP/IP stack, LQFP-48; ki_keywords: Wiznet
pins: 1 GNDA, 2 TXON, 3 TXOP, 4 1V2A, 5 RXIN, 6 RXIP, 7 GNDA, 8 3V3A, 9 RSET_BG, 10 GND, 11 XSCO, 12 XSCI, 13 1V2D, 14 1V2O, 15 3V3A, 16 GNDA, 17 ~{{LNK}}, 18 ~{{SPD}}, 19 ~{{DPX}}, 20 ~{{ACT}}, 21 ~{{COL}}, 22 1V2D, 23 GND, 24 3V3D, 25 MOD[0], 26 MOD[1], 27 MOD[2], 28 MOD[3], 29 ~{{CS}}, 30 SCLK, 31 1V2D, 32 MOSI, 33 MISO, 34 ~{{RD}}, 35 ~{{WR}}, 36 3V3D, 37 DATA0, 38 DATA1, 39 DATA2, 40 DATA3, 41 DATA4, 42 DATA5, 43 DATA6, 44 DATA7, 45 1V2D, 46 GND, 47 ~{{INT}}, 48 ~{{RST}}

## W5100S-Q
designator *  value W5100S-Q  Reference: U
10/100Mb Ethernet controller with TCP/IP stack, QFN-48; Manufacturer: WIZnet; ki_fp_filters: *QFN*7x7mm*P0.5mm*EP5.3x5.3mm*; Footprint: Package_DFN_QFN:QFN-48-1EP_7x7mm_P0.5mm_EP5.3x5.3mm; Datasheet: https://docs.wiznet.io/img/products/w5100s/w5100s-ds-v128e.pdf; Description_: 10/100Mb Ethernet controller with TCP/IP stack, QFN-48; ki_keywords: Wiznet
pins: 1 GNDA, 2 TXON, 3 TXOP, 4 1V2A, 5 RXIN, 6 RXIP, 7 GNDA, 8 3V3A, 9 RSET_BG, 10 GND, 11 XSCO, 12 XSCI, 13 1V2D, 14 1V2O, 15 3V3A, 16 GNDA, 17 ~{{LNK}}, 18 ~{{SPD}}, 19 ~{{DPX}}, 20 ~{{ACT}}, 21 ~{{COL}}, 22 1V2D, 23 GND, 24 3V3D, 25 MOD[0], 26 MOD[1], 27 MOD[2], 28 MOD[3], 29 ~{{CS}}, 30 SCLK, 31 1V2D, 32 MOSI, 33 MISO, 34 ~{{RD}}, 35 ~{{WR}}, 36 3V3D, 37 DATA0, 38 DATA1, 39 DATA2, 40 DATA3, 41 DATA4, 42 DATA5, 43 DATA6, 44 DATA7, 45 1V2D, 46 GND, 47 ~{{INT}}, 48 ~{{RST}}, 49 EP

## W5500
designator *  value W5500  Reference: U
10/100Mb SPI Ethernet controller with TCP/IP stack, LQFP-48; ki_keywords: WIZnet Ethernet controller; ki_fp_filters: LQFP*7x7mm*P0.5mm*; Footprint: Package_QFP:LQFP-48_7x7mm_P0.5mm; Datasheet: http://wizwiki.net/wiki/lib/exe/fetch.php/products:w5500:w5500_ds_v109e.pdf; Description_: 10/100Mb SPI Ethernet controller with TCP/IP stack, LQFP-48
pins: 1 TXN, 2 TXP, 3 AGND, 4 AVDD, 5 RXN, 6 RXP, 7 DNC, 8 AVDD, 9 AGND, 10 EXRES1, 11 AVDD, 12 NC, 13 NC, 14 AGND, 15 AVDD, 16 AGND, 17 AVDD, 18 VBG, 19 AGND, 20 TOCAP, 21 AVDD, 22 1V2O, 23 RSVD, 24 SPDLED, 25 LINKLED, 26 DUPLED, 27 ACTLED, 28 VDD, 29 GND, 30 XI/CLKIN, 31 XO, 32 ~{{SCS}}, 33 SCLK, 34 MISO, 35 MOSI, 36 ~{{INT}}, 37 ~{{RST}}, 38 RSVD, 39 RSVD, 40 RSVD, 41 RSVD, 42 RSVD, 43 PMODE2, 44 PMODE1, 45 PMODE0, 46 NC, 47 NC, 48 AGND

## W6100-L
designator *  value W6100-L  Reference: U
10/100Mb Ethernet controller with TCP/IP stack, IPv4/IPv6, LQFP-48; Manufacturer: WIZnet; ki_fp_filters: LQFP*7x7mm*P0.5mm*; Footprint: Package_QFP:LQFP-48_7x7mm_P0.5mm; Datasheet: https://docs.wiznet.io/img/products/w6100/w6100_ds_v105e.pdf; Description_: 10/100Mb Ethernet controller with TCP/IP stack, IPv4/IPv6, LQFP-48; ki_keywords: Wiznet
pins: 1 GNDA, 2 TXON, 3 TXOP, 4 1V2A, 5 RXIN, 6 RXIP, 7 GNDA, 8 3V3A, 9 RSET_BG, 10 GND, 11 XSCO, 12 XSCI, 13 1V2D, 14 1V2O, 15 3V3A, 16 GNDA, 17 ~{{LNK}}, 18 ~{{SPD}}, 19 ~{{DPX}}, 20 ~{{ACT}}, 21 ~{{COL}}, 22 1V2D, 23 GND, 24 3V3D, 25 MOD[0], 26 MOD[1], 27 MOD[2], 28 MOD[3], 29 ~{{CS}}, 30 SCLK, 31 1V2D, 32 MOSI, 33 MISO, 34 ~{{RD}}, 35 ~{{WR}}, 36 3V3D, 37 DATA0, 38 DATA1, 39 DATA2, 40 DATA3, 41 DATA4, 42 DATA5, 43 DATA6, 44 DATA7, 45 1V2D, 46 GND, 47 ~{{INT}}, 48 ~{{RST}}

## W6100-Q
designator *  value W6100-Q  Reference: U
10/100Mb Ethernet controller with TCP/IP stack, IPv4/IPv6, QFN-48; Manufacturer: WIZnet; ki_fp_filters: *QFN*7x7mm*P0.5mm*EP5.3x5.3mm*; Footprint: Package_DFN_QFN:QFN-48-1EP_7x7mm_P0.5mm_EP5.3x5.3mm; Datasheet: https://docs.wiznet.io/img/products/w6100/w6100_ds_v105e.pdf; Description_: 10/100Mb Ethernet controller with TCP/IP stack, IPv4/IPv6, QFN-48; ki_keywords: Wiznet
pins: 1 GNDA, 2 TXON, 3 TXOP, 4 1V2A, 5 RXIN, 6 RXIP, 7 GNDA, 8 3V3A, 9 RSET_BG, 10 GND, 11 XSCO, 12 XSCI, 13 1V2D, 14 1V2O, 15 3V3A, 16 GNDA, 17 ~{{LNK}}, 18 ~{{SPD}}, 19 ~{{DPX}}, 20 ~{{ACT}}, 21 ~{{COL}}, 22 1V2D, 23 GND, 24 3V3D, 25 MOD[0], 26 MOD[1], 27 MOD[2], 28 MOD[3], 29 ~{{CS}}, 30 SCLK, 31 1V2D, 32 MOSI, 33 MISO, 34 ~{{RD}}, 35 ~{{WR}}, 36 3V3D, 37 DATA0, 38 DATA1, 39 DATA2, 40 DATA3, 41 DATA4, 42 DATA5, 43 DATA6, 44 DATA7, 45 1V2D, 46 GND, 47 ~{{INT}}, 48 ~{{RST}}, 49 EP

## WGI210AT
designator *  value WGI210AT  Reference: U
10/100/1000Mbps Ethernet transceiver with GMII/Serdes/PCIe interface, QFN-64; ki_keywords: Gigabit ethernet PHY PCIe; ki_fp_filters: QFN*1EP*9x9mm*P0.5mm*; Footprint: Package_DFN_QFN:QFN-64-1EP_9x9mm_P0.5mm_EP3.4x3.4mm; Datasheet: http://www.intel.com/content/www/us/en/ethernet-controllers/i210-ethernet-controller-datasheet.html; Description_: 10/100/1000Mbps Ethernet transceiver with GMII/Serdes/PCIe interface, QFN-64
pins: 1 LAN_PWR_GOOD, 2 NC_SI_CLK_IN, 3 NC_SI_CRS_DV, 4 JTAG_TDO, 5 NC_SI_RXD1, 6 NC_SI_RXD0, 7 NC_SI_TX_EN, 8 NC_SI_TXD1, 9 NC_SI_TXD0, 10 VDD3p3, 11 VDD0p9, 12 NVM_SI, 13 NVM_SK, 14 NVM_SO, 15 ~{{NVM_CS}}, 16 ~{{PE_WAKE}}, 17 ~{{PE_RST}}, 18 JTAG_TMS, 19 JTAG_CLK, 20 PE_Tn, 21 PE_Tp, 22 NC/Vext, 23 PE_Rn, 24 PE_Rp, 25 PECLKn, 26 PECLKp, 27 VDD3p3, 28 ~{{DEV_OFF}}, 29 JTAG_TDI, 30 LED1, 31 LED0, 32 VDD0p9, 33 LED2, 34 SMB_CLK, 35 ~{{SMB_ALRT}}, 36 SMB_DATA, 37 CBOT, 38 VDD0p9_OUT, 39 VDD1p5_OUT, 40 CTOP, 41 VDD3p3, 42 VDD0p9, 43 NC_SI_ARB_IN, 44 NC_SI_ARB_OUT, 45 XTAL2, 46 XTAL1, 47 VDD1p5, 48 RSET, 49 MDI_MINUS[3]/SER_N, 50 MDI_PLUS[3]/SER_P, 51 VDD3p3, 52 MDI_MINUS[2]/SET_N, 53 MDI_PLUS[2], 54 MDI_MINUS[1]/SRDS_SIG_DET, 55 MDI_PLUS[1]/SFP_I2C_CLK, 56 VDD1p5, 57 MDI_MINUS[0]/SFP_I2C_DATA, 58 MDI_PLUS[0]/NC, 59 VDD0p9, 60 SDP3, 61 SDP1, 62 SDP2, 63 SDP0, 64 VDD3p3, 65 GND